# Altium footprint library LYDZ.PcbLib: 231 footprints (part 2 of 15)
Each footprint in its own frame and in the unit in brackets; x right, y up, seen from the top. Pads: shape width x height; smd on the part's side, far side on the other; paste and mask are expansions set on the pad; w line width, h text height; cw(c..) or ccw(c..) is an arc to the next point about the centre after c.
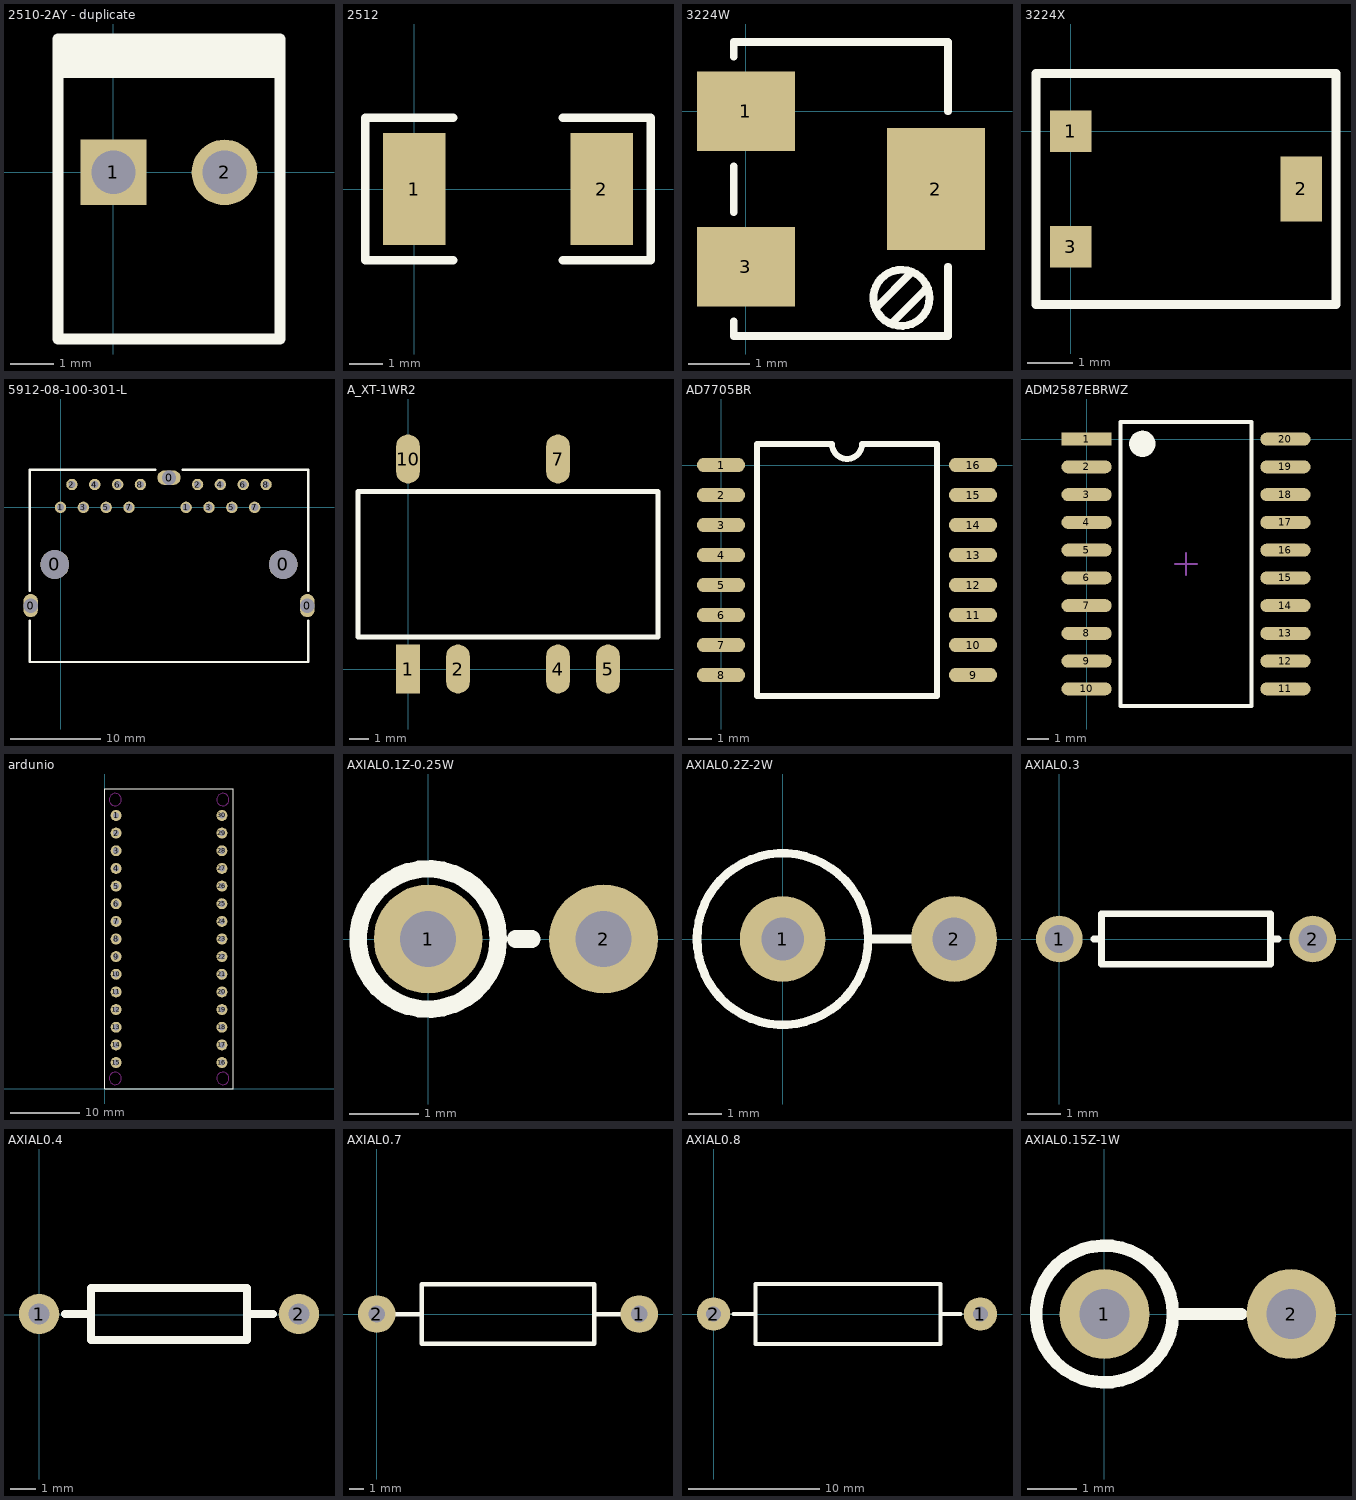
[diagram p1: the footprints below, top view; thin cyan lines are the x and y axes]

## 2510-2AY - duplicate [mm]
pads (2):
  rect 1.5x1.5 hole 1: 1(0,0)
  round 1.5 hole 1: 2(2.54,0)
Top Overlay:
  lines w0.254: -1.27,2.286 3.81,2.286 ; -1.27,2.54 3.81,2.54 ; -1.27,2.794 3.81,2.794 ; -1.27,-3.81 -1.27,-1.27 -1.27,3.048 3.81,3.048 3.81,-1.27 3.81,-3.81 -1.27,-3.81

## 2512 [mm] "Chip Capacitor; Body 4.5 x 3.2 mm (LxW typ)"
height 1.1
pads (2):
  rect 1.9x3.4 smd: 1(0,0) 2(5.678,0)
Top Overlay:
  lines w0.254: 1.188,-2.159 -1.479,-2.159 -1.479,2.159 1.188,2.159 ; 4.49,-2.159 7.157,-2.159 7.157,2.159 4.49,2.159

## 3224W [mm]
pads (3):
  rect 1.6x1.3 smd: 1(0,0) 3(0,-2.54)
  rect 1.6x2 smd: 2(3.1,-1.27)
Top Overlay:
  circle w0.127: c2.54,-3.048 r0.458
  lines w0.127: -0.2,-3.429 -0.2,-3.67 3.3,-3.67 3.3,-2.54 ; -0.2,-1.651 -0.2,-0.902 ; -0.2,0.889 -0.2,1.13 3.3,1.13 3.3,0 ; 2.159,-3.175 2.667,-2.667 ; 2.413,-3.429 2.921,-2.921

## 3224X [mil]
pads (3):
  rect 36x36 smd: 1(0,0) 3(0,-100)
  rect 36x56 smd: 2(200,-50)
Top Overlay:
  lines w8: -30,-150 -30,50 230,50 230,-150 -30,-150

## 5912-08-100-301-L [mil]
height 110.24
pads (21):
  oval 62.99x102.36 hole 62.99: 0(-130.75,-429.57) 0(1080.28,-429.57)
  round 125.98 hole 125.98: 0(-25.24,-249.65) 0(974.76,-249.65)
  oval 102.36x62.99 hole 62.99: 0(474.76,130.35)
  round 50 hole 32: 1(-0.24,0.35) 1(549.76,0.35) 2(49.76,100.35) 2(599.76,100.35) 3(99.76,0.35) 3(649.76,0.35) 4(149.76,100.35) 4(699.76,100.35) 5(199.76,0.35) 5(749.76,0.35) 6(249.76,100.35) 6(799.76,100.35) 7(299.76,0.35) 7(849.76,0.35) 8(349.76,100.35) 8(899.76,100.35)
Top Overlay:
  lines w10: -135.47,-495 -135.47,-676.82 1085,-676.82 1085,-495 ; -135.47,-365 -135.47,165 415,165 ; 534.53,165 1085,165 1085,-365

## A_XT-1WR2 [mm]
pads (6):
  rect 1.2x2.5 smd: 1(0,0)
  oval 1.2x2.5 smd: 2(2.54,0) 4(7.62,0) 5(10.16,0) 7(7.62,10.668) 10(0,10.668)
Top Overlay:
  lines w0.254: -2.54,1.626 12.7,1.626 12.7,9.017 -2.54,9.017 -2.54,1.626

## AD7705BR [mil]
pads (16):
  oval 80x24 smd: 1(0,0) 2(0,-50) 3(0,-100) 4(0,-150) 5(0,-200) 6(0,-250) 7(0,-300) 8(0,-350) 9(420,-350) 10(420,-300) 11(420,-250) 12(420,-200) 13(420,-150) 14(420,-100) 15(420,-50) 16(420,0)
Top Overlay:
  lines w10: 60,-385 60,35 185,35 ccw(c210,35) 235,35 360,35 360,-385 60,-385

## ADM2587EBRWZ [mm]
pads (20):
  rect 2.3x0.6 smd: 1(0,0)
  oval 2.3x0.6 smd: 2(0,-1.27) 3(0,-2.54) 4(0,-3.81) 5(0,-5.08) 6(0,-6.35) 7(0,-7.62) 8(0,-8.89) 9(0,-10.16) 10(0,-11.43) 11(9.1,-11.43) 12(9.1,-10.16) 13(9.1,-8.89) 14(9.1,-7.62) 15(9.1,-6.35) 16(9.1,-5.08) 17(9.1,-3.81) 18(9.1,-2.54) 19(9.1,-1.27) 20(9.1,0)
Top Overlay:
  circle w0.6: c2.55,-0.215 r0.3
  lines w0.2: 1.55,-12.215 1.55,0.785 7.55,0.785 7.55,-12.215 1.55,-12.215
Mechanical 15:
  lines w0.1: 4.05,-5.715 5.05,-5.715 ; 4.55,-6.215 4.55,-5.215

## ardunio [mil]
height 62.99
pads (30):
  round 62 hole 35: 1(65,1550) 2(65,1450) 3(65,1350) 4(65,1250) 5(65,1150) 6(65,1050) 7(65,950) 8(65,850) 9(65,750) 10(65,650) 11(65,550) 12(65,450) 13(65,350) 14(65,250) 15(65,150) 16(665,150) 17(665,250) 18(665,350) 19(665,450) 20(665,550) 21(665,650) 22(665,750) 23(665,850) 24(665,950) 25(665,1050) 26(665,1150) 27(665,1250) 28(665,1350) 29(665,1450) 30(665,1550)
Top Overlay:
  lines w5: 0,0 0,1700 730,1700 730,0 0,0
Keep-Out Layer:
  circle w5: c60,60 r35
  circle w5: c670,60 r35
  circle w5: c670,1640 r35
  circle w5: c60,1640 r35

## AXIAL0.1Z-0.25W [mil]
pads (2):
  round 62 hole 32: 1(0,0) 2(100,0)
Top Overlay:
  circle w10: c0,0 r40
  lines w10: 50,0 59,0

## AXIAL0.2Z-2W [mil]
pads (2):
  round 100 hole 50: 1(0,0) 2(200,0)
Top Overlay:
  circle w10: c0,0 r100
  lines w10: 100,0 160,0

## AXIAL0.3 [mm]
pads (2):
  round 1.4 hole 0.85: 1(0,0) 2(7.62,0)
Top Overlay:
  lines w0.2: 1.041,0 1.27,0 ; 6.579,0 6.35,0 ; 6.35,0 6.35,-0.762 1.27,-0.762 1.27,0.762 6.35,0.762 6.35,0

## AXIAL0.4 [mil]
pads (2):
  round 62 hole 32: 1(0,0.83) 2(400,0.83)
Top Overlay:
  lines w12: 40,0.83 80,0.83 ; 320,0.83 360,0.83 ; 80,-39.17 320,-39.17 320,40.83 80,40.83 80,-39.17

## AXIAL0.7 [mil]
pads (2):
  round 100 hole 45: 1(700,0) 2(0,0)
Top Overlay:
  lines w12: 50,0 120,0 ; 580,0 650,0 ; 120,-80 580,-80 580,80 120,80 120,-80

## AXIAL0.8 [mil]
pads (2):
  round 100 hole 45: 1(800,0) 2(0,0)
Top Overlay:
  lines w12: 60,0 120,0 ; 680,0 740,0 ; 125,-90 680,-90 680,90 125,90 125,-90

## AXIAL0.15Z-1W [mil]
pads (2):
  round 72 hole 40: 1(0,0) 2(150,0)
Top Overlay:
  circle w10: c0,0 r55
  lines w10: 55,0 110,0